# EAGLE library part ADUM7510 (library PowerSocket)
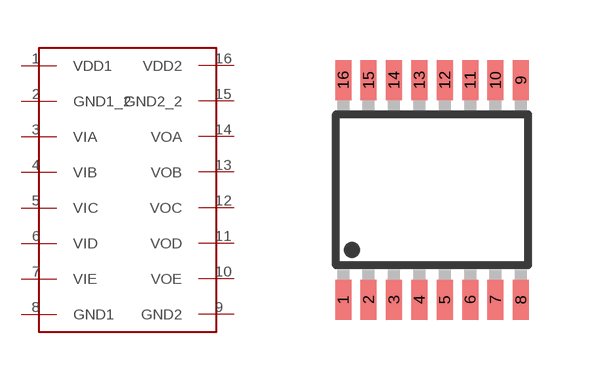
[diagram p3: symbol with the pads of QSOP16; footprint QSOP16]

Designator prefix -

## ADUM7510  [QSOP16]
1  VDD1
2  GND1_2
3  VIA
4  VIB
5  VIC
6  VID
7  VIE
8  GND1
9  GND2
10  VOE
11  VOD
12  VOC
13  VOB
14  VOA
15  GND2_2
16  VDD2

## Footprint QSOP16 (pad centres in mm)
QSOP-16
smd 0.4 x 1: 1 -2.223,-2.75; 2 -1.588,-2.75; 3 -0.953,-2.75; 4 -0.318,-2.75; 5 0.318,-2.75; 6 0.953,-2.75; 7 1.588,-2.75; 8 2.223,-2.75; 9 2.223,2.75; 10 1.588,2.75; 11 0.953,2.75; 12 0.318,2.75; 13 -0.318,2.75; 14 -0.953,2.75; 15 -1.588,2.75; 16 -2.223,2.75